# Altium footprint library Footprints.PcbLib: 8 footprints
Each footprint in its own frame and in the unit in brackets; x right, y up, seen from the top. Pads: shape width x height; smd on the part's side, far side on the other; paste and mask are expansions set on the pad; w line width, h text height; cw(c..) or ccw(c..) is an arc to the next point about the centre after c.
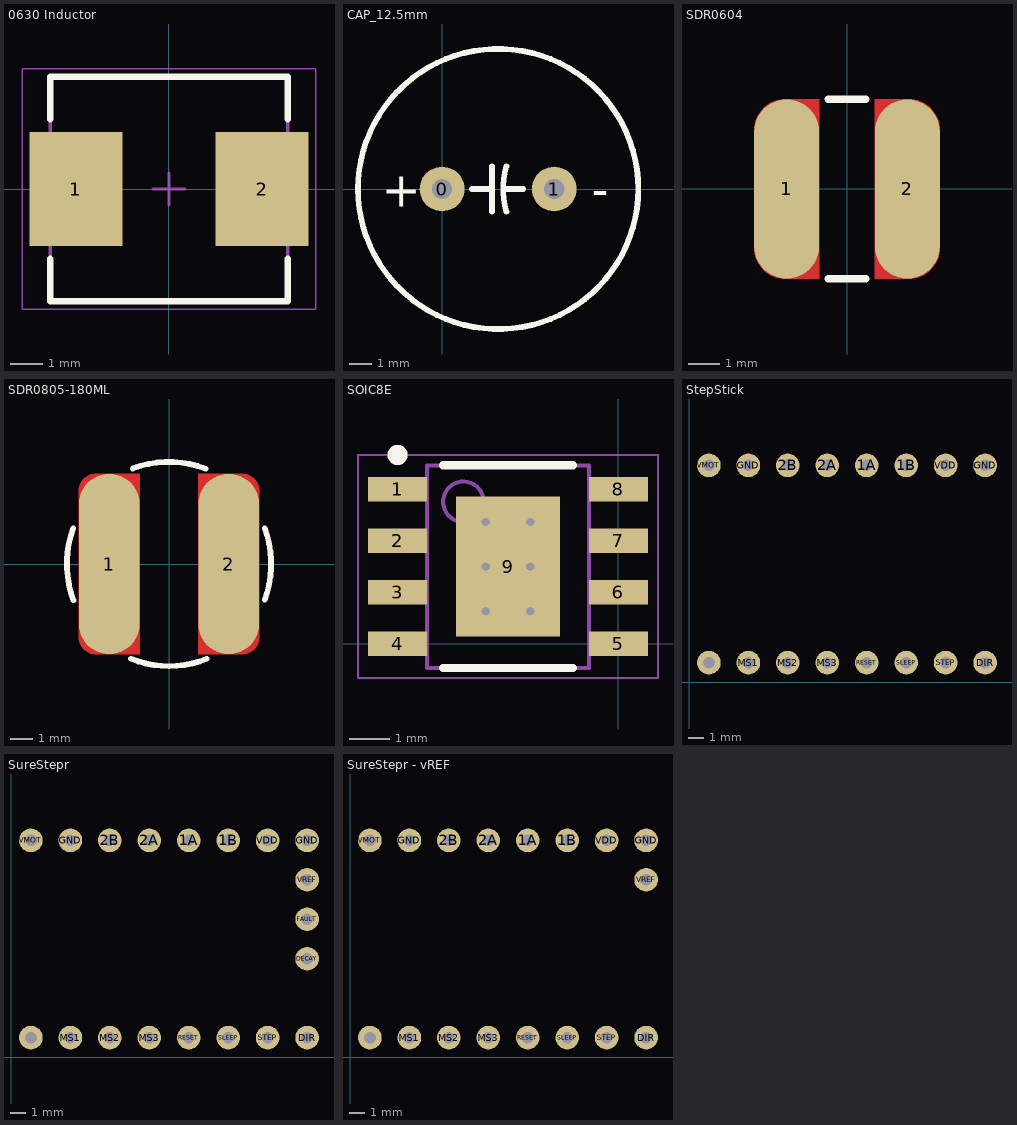
[diagram p0: the footprints below, top view; thin cyan lines are the x and y axes]

## 0630 Inductor [mm] "Precision Wire Wound Inductor, 2-Leads, Body 7.40x7.00mm, IPC Medium Density"
height 3
pads (2):
  rect 2.9x3.55 smd: 1(-2.9,0) 2(2.9,0)
Top Overlay:
  lines w0.2: -3.7,-2.175 -3.7,-3.5 3.7,-3.5 3.7,-2.175 ; -3.7,2.175 -3.7,3.5 3.7,3.5 3.7,2.175
Mechanical 13:
  lines w0.1: -3.7,-3.5 3.7,-3.5 3.7,3.5 -3.7,3.5 -3.7,-3.5
Mechanical 15:
  lines w0.05: -4.575,-3.75 4.575,-3.75 4.575,3.75 -4.575,3.75 -4.575,-3.75
  lines w0.1: -0.5,0 0.5,0 ; 0,-0.5 0,0.5
3D body: height 3, standoff 0, extent -3.7,-3.5 3.7,3.5

## CAP_12.5mm [mm]
pads (2):
  round 2 hole 0.9: 0(0,0) 1(5,0)
Top Overlay:
  circle w0.254: c2.5,0 r6.25
  lines w0.254: 1.336,0 2.225,0 ; 2.225,-1.016 2.225,1.016 ; 2.733,0 3.622,0 ; 2.87,-1.016 cw(c6.172,0) 2.87,1.016
  text "-" at 6.68,-0.762 h1.52
  text "+" at -2.7,-0.8 h1.52
3D body "User Library-CAPPR500-1250x2000.STEP": height 20, standoff -7.5, extent -3.75,-6.25 8.75,6.25

## SDR0604 [mm]
pads (2):
  rrect100% 2.1x5.8 smd: 1(-1.95,0) 2(1.95,0)
Top Layer:
  region: -2,2.9 -0.9,2.9 -0.9,-2.9 -2,-2.9 -2.098,-2.9 -2.292,-2.862 -2.474,-2.786 -2.637,-2.677 -2.777,-2.537 -2.886,-2.374 -2.962,-2.192 -3,-1.999 -3,-1.9 -3,1.9 -3,1.999 -2.962,2.192 -2.886,2.374 -2.777,2.537 -2.637,2.677 -2.474,2.786 -2.292,2.862 -2.099,2.9
  region: 2,2.9 0.9,2.9 0.9,-2.9 2,-2.9 2.098,-2.9 2.292,-2.862 2.474,-2.786 2.637,-2.677 2.777,-2.537 2.886,-2.374 2.962,-2.192 3,-1.998 3,-1.9 3,1.9 3,1.998 2.962,2.192 2.886,2.374 2.777,2.537 2.638,2.677 2.474,2.786 2.292,2.862 2.099,2.9
Top Overlay:
  lines w0.254: -0.6,-2.9 0.6,-2.9 ; -0.6,2.9 0.6,2.9
3D body "User Library-SDR0604.step": height 4.55, standoff 0, extent -2.754,-2.8 2.754,2.8

## SDR0805-180ML [mm]
pads (2):
  rrect100% 2.7x8 smd: 1(-2.65,0) 2(2.65,0)
Top Layer:
  region: -3.25,4 -1.3,4 -1.3,-4 -3.25,-4 -3.324,-4 -3.469,-3.971 -3.605,-3.915 -3.728,-3.833 -3.833,-3.728 -3.915,-3.605 -3.971,-3.469 -4,-3.324 -4,-3.25 -4,3.25 -4,3.324 -3.971,3.469 -3.915,3.605 -3.833,3.728 -3.728,3.833 -3.605,3.915 -3.469,3.971 -3.324,4
  region: 3.25,4 1.3,4 1.3,-4 3.25,-4 3.324,-4 3.469,-3.971 3.605,-3.915 3.728,-3.833 3.833,-3.728 3.915,-3.605 3.971,-3.469 4,-3.324 4,-3.25 4,3.25 4,3.324 3.971,3.469 3.915,3.605 3.833,3.728 3.728,3.833 3.605,3.915 3.469,3.971 3.324,4
Top Overlay:
  lines w0.254: -4.24,1.59 ccw(c0,0) -4.235,-1.603 ; -1.682,-4.204 ccw(c0,0) 1.676,-4.206 ; -1.603,4.235 cw(c0,0) 1.625,4.226 ; 4.239,-1.59 ccw(c0,0) 4.239,1.59
3D body "User Library-inductor SDR0805.step": height 5.3, standoff 0, extent -3.9,-3.9 3.9,3.9

## SOIC8E [mm] "SOIC, 8-Leads, Body 4.90x3.90mm, Pitch 1.27mm, Thermal Pad 3.45x2.56mm, IPC Medium Density"
height 1.5
pads (9):
  rect 1.45x0.6 smd: 1(-5.45,3.81) 2(-5.45,2.54) 3(-5.45,1.27) 4(-5.45,0) 5(0,0) 6(0,1.27) 7(0,2.54) 8(0,3.81)
  rect 2.56x3.45 smd: 9(-2.725,1.905)
via -3.275,0.805 diameter 0.5 hole 0.2
via -2.175,1.905 diameter 0.5 hole 0.2
via -3.275,1.905 diameter 0.5 hole 0.2
via -2.175,3.005 diameter 0.5 hole 0.2
via -3.275,3.005 diameter 0.5 hole 0.2
via -2.175,0.805 diameter 0.5 hole 0.2
Top Overlay:
  circle w0.25: c-5.45,4.66 r0.125
  lines w0.2: -4.325,-0.595 -1.125,-0.595 ; -4.325,4.405 -1.125,4.405
Mechanical 13:
  circle w0.1: c-3.825,3.505 r0.5
  lines w0.1: -4.725,-0.595 -0.725,-0.595 -0.725,4.405 -4.725,4.405 -4.725,-0.595
Mechanical 15:
  lines w0.05: -6.425,-0.845 0.975,-0.845 0.975,4.655 -6.425,4.655 -6.425,-0.845
  lines w0.1: -3.225,1.905 -2.225,1.905 ; -2.725,1.405 -2.725,2.405
3D body: height 1.5, standoff 0.1, extent -4.725,-0.595 -0.725,4.405

## StepStick [mil]
pads (16):
  round 60 hole 30: 1A(450,550) 1B(550,550) 2A(350,550) 2B(250,550) DIR(750,50) ENABLE(50,50) GND(150,550) GND(750,550) MS1(150,50) MS2(250,50) MS3(350,50) RESET(450,50) SLEEP(550,50) STEP(650,50) VDD(650,550) VMOT(50,550)
3D body "stepstick.X_T": height 722.28, standoff 90.78, extent 0,0 800,600
3D body "Header_8.x_t": height 334.65, standoff -82.42, extent 0,0 800,100
3D body "Header_8.x_t": height 334.65, standoff -82.42, extent 0,500 800,600

## SureStepr [mil]
pads (19):
  round 60 hole 30: 1A(450,550) 1B(550,550) 2A(350,550) 2B(250,550) DECAY(750,250) DIR(750,50) ENABLE(50,50) FAULT(750,350) GND(150,550) GND(750,550) MS1(150,50) MS2(250,50) MS3(350,50) RESET(450,50) SLEEP(550,50) STEP(650,50) VDD(650,550) VMOT(50,550) VREF(750,450)
3D body "Header_8.x_t": height 334.65, standoff -82.42, extent 0,500 800,600
3D body "Header_8.x_t": height 334.65, standoff -82.42, extent 0,0 800,100
3D body "stepstick.X_T": height 722.28, standoff 90.78, extent 0,0 800,600
3D body "Header_3.x_t": height 334.65, standoff -82.42, extent 700,200 800,500

## SureStepr - vREF [mil]
pads (17):
  round 60 hole 30: 1A(450,550) 1B(550,550) 2A(350,550) 2B(250,550) DIR(750,50) ENABLE(50,50) GND(150,550) GND(750,550) MS1(150,50) MS2(250,50) MS3(350,50) RESET(450,50) SLEEP(550,50) STEP(650,50) VDD(650,550) VMOT(50,550) VREF(750,450)
3D body "pin.sldprt": height 311.28, standoff -82.42, extent 711.85,442.13 790,457.87
3D body "header.SLDPRT": height 334.65, standoff 0, extent 700,400 800,500
3D body "Header_8.x_t": height 334.65, standoff -82.42, extent 0,500 800,600
3D body "Header_8.x_t": height 334.65, standoff -82.42, extent 0,0 800,100
3D body "stepstick.X_T": height 722.28, standoff 90.78, extent 0,0 800,600